# Altium footprint library SEMI.PcbLib: 31 footprints (part 2 of 2)
Each footprint in its own frame and in the unit in brackets; x right, y up, seen from the top. Pads: shape width x height; smd on the part's side, far side on the other; paste and mask are expansions set on the pad; w line width, h text height; cw(c..) or ccw(c..) is an arc to the next point about the centre after c.
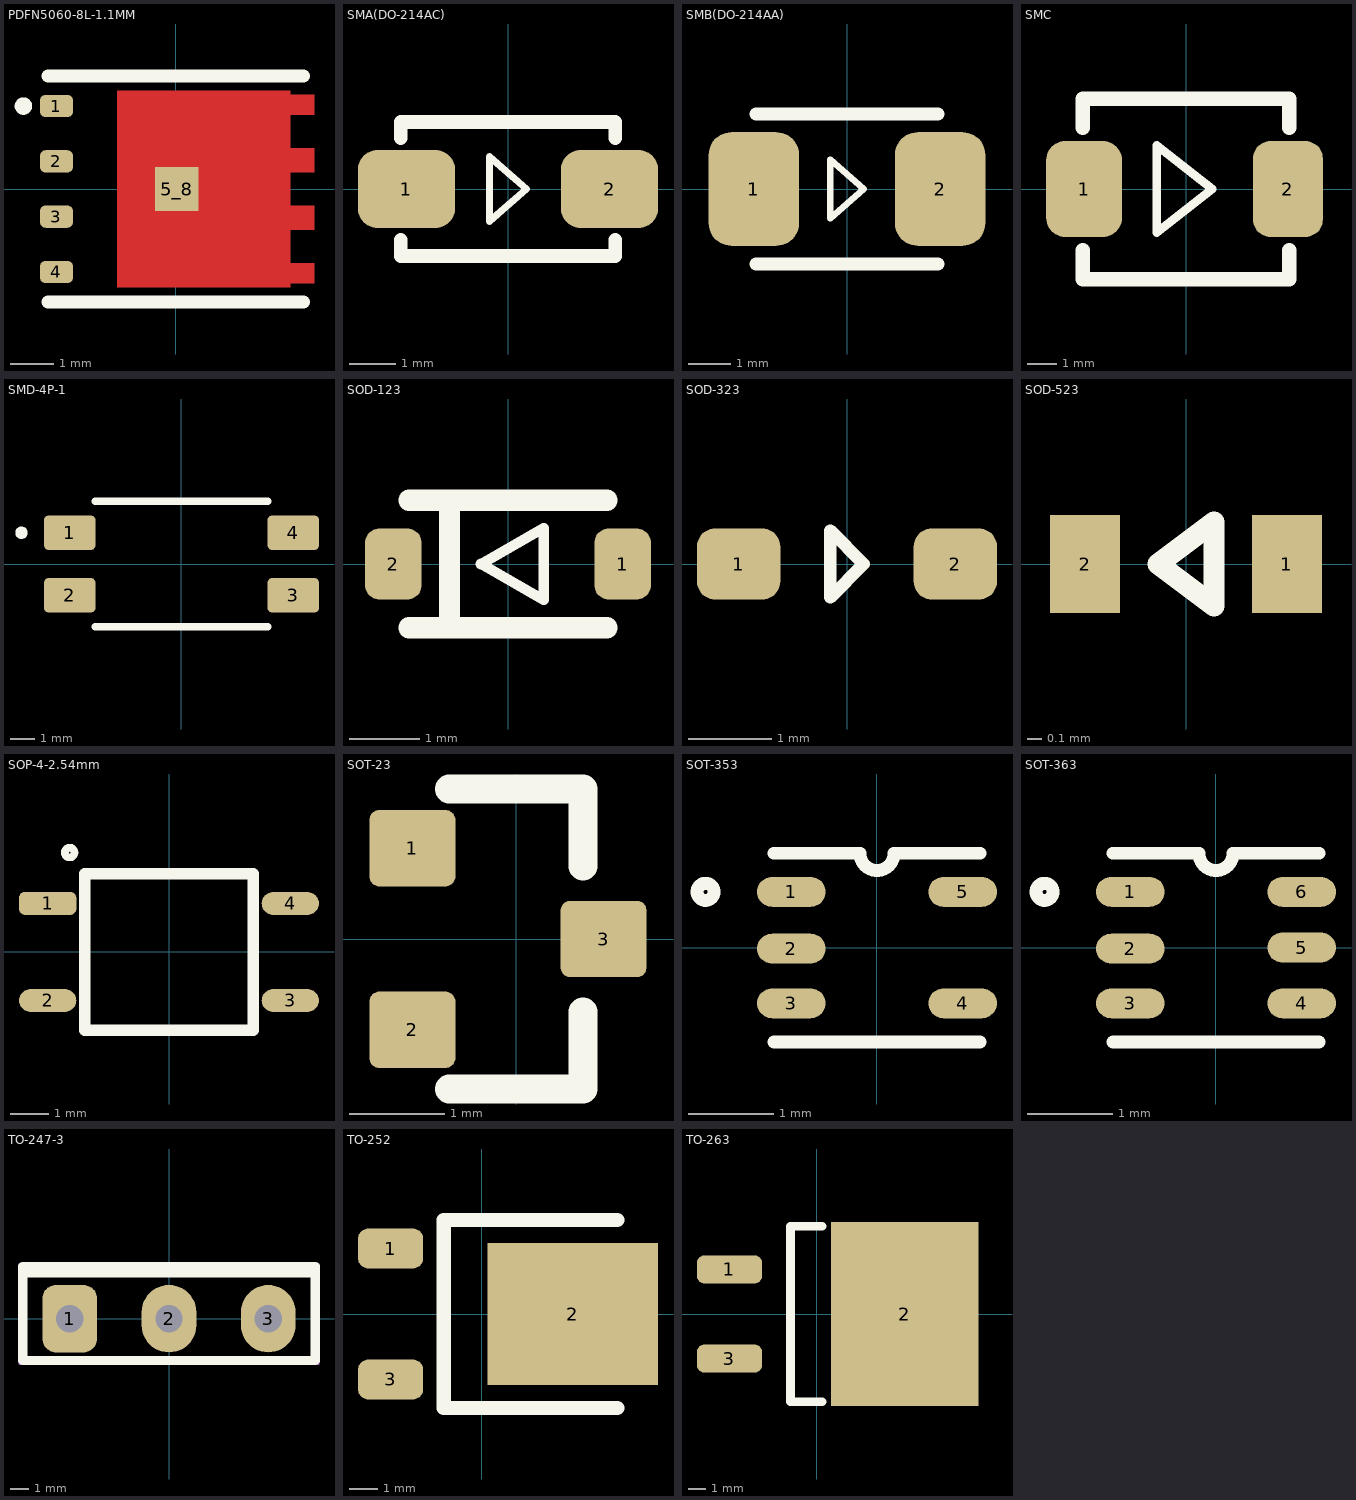
[diagram p1: the footprints below, top view; thin cyan lines are the x and y axes]

## PDFN5060-8L-1.1MM [mm]
height 1.1
pads (5):
  rrect50% 0.76x0.51 smd: 1(-2.74,1.905) 2(-2.74,0.635) 3(-2.74,-0.635) 4(-2.74,-1.905)
  rect 1x1 smd paste-1 mask+0: 5_8(0.025,0)
Top Layer:
  region: 3.18,1.7 2.63,1.7 2.63,0.94 3.18,0.94 3.18,0.38 2.63,0.38 2.63,-0.38 3.18,-0.38 3.18,-0.94 2.63,-0.94 2.63,-1.7 3.18,-1.7 3.18,-2.16 2.63,-2.16 2.63,-2.26 -1.34,-2.26 -1.34,2.26 2.63,2.26 2.63,2.16 3.18,2.16
Top Overlay:
  circle w0.2: c-3.5,1.905 r0.1
  lines w0.3: -2.93,-2.6 2.93,-2.6 ; -2.93,2.6 2.93,2.6
Top Paste:
  region: 0.35,0.225 -0.93,0.225 -0.93,1.295 0.35,1.295
  region: 2.08,0.225 0.8,0.225 0.8,1.295 2.08,1.295
  region: 2.08,-1.295 0.8,-1.295 0.8,-0.225 2.08,-0.225
  region: 0.35,-1.295 -0.93,-1.295 -0.93,-0.225 0.35,-0.225
  region: 3.18,0.38 2.38,0.38 2.38,0.94 3.18,0.94
  region: 3.18,-2.16 2.38,-2.16 2.38,-1.7 3.18,-1.7
  region: 3.18,-0.94 2.38,-0.94 2.38,-0.38 3.18,-0.38
  region: 3.18,1.7 2.38,1.7 2.38,2.16 3.18,2.16
Top Solder:
  region: 3.29,1.6 2.73,1.6 2.73,1.04 3.29,1.04 3.29,0.28 2.73,0.28 2.73,-0.28 3.29,-0.28 3.29,-1.04 2.73,-1.04 2.73,-1.6 3.29,-1.6 3.29,-2.36 -1.44,-2.36 -1.44,2.36 3.29,2.36
3D body "step_temp.STEP": height 1.1, standoff 0, extent -3.15,-2.525 3.2,2.525

## SMA(DO-214AC) [mm]
pads (2):
  rrect50% 2.1x1.7 smd: 1(-2.2,0) 2(2.2,0)
Top Overlay:
  lines w0.15: -0.4,-0.7 -0.4,0.7 0.4,0 -0.4,-0.7
  lines w0.3: -2.325,-1.104 -2.325,-1.45 2.325,-1.45 2.325,-1.104 ; -2.325,1.104 -2.325,1.45 2.325,1.45 2.325,1.104
3D body "SMA(DO-214AC).STEP": height 2.44, standoff 0.04, extent -2.6,-1.3 2.6,1.3

## SMB(DO-214AA) [mm]
pads (2):
  rrect50% 2.15x2.7 smd: 1(-2.21,0) 2(2.21,0)
Top Overlay:
  lines w0.15: -0.4,-0.7 0.4,0 -0.4,0.7 -0.4,-0.7
  lines w0.3: -2.16,-1.78 2.16,-1.78 ; -2.16,1.78 2.16,1.78
3D body "SMB.STEP": height 2.33, standoff 0.03, extent -2.7,-1.78 2.7,1.78

## SMC [mm]
pads (2):
  rrect50% 2.6x3.3 smd: 1(-3.5,0)
  rrect50% 2.4x3.3 smd: 2(3.5,0)
Top Overlay:
  lines w0.3: -1,-1.5 0.9,0 -1,1.5 -1,-1.5
  lines w0.5: -3.55,-2.1 -3.55,-3.1 3.55,-3.1 3.55,-2.1 ; -3.55,2.1 -3.55,3.1 3.55,3.1 3.55,2.1
3D body "SMC.step": height 2.27, standoff 0, extent -3.97,-2.953 3.97,2.953

## SMD-4P-1 [mm]
pads (4):
  rrect25% 2.09x1.39 smd: 1(-4.54,1.27) 2(-4.54,-1.27) 3(4.54,-1.27) 4(4.54,1.27)
Top Overlay:
  circle w0.3: c-6.5,1.27 r0.1
  lines w0.3: -3.5,-2.55 3.5,-2.55 ; -3.5,2.55 3.5,2.55
3D body "VOT8024AB-T2.STEP": height 3.78, standoff -0.08, extent -5.08,-2.3 5.08,2.3

## SOD-123 [mm]
pads (2):
  rrect50% 0.8x1 smd paste-0.05: 1(1.62,0) 2(-1.62,0)
Top Overlay:
  lines w0.15: -0.381,0 0.508,0.508 0.508,-0.508 -0.381,0
  lines w0.3: -1.4,-0.9 1.4,-0.9 ; -1.4,0.9 1.4,0.9 ; -0.827,-0.9 -0.827,0.9
3D body "User Library-SOD-123.STEP": height 1.25, standoff 0, extent -1.849,-0.8 1.849,0.8

## SOD-323 [mm]
pads (2):
  rrect50% 1x0.85 smd mask+0.1: 1(-1.3,0) 2(1.3,0)
Top Overlay:
  lines w0.15: -0.2,-0.4 0.2,0 -0.2,0.4 -0.2,-0.4
3D body "step_temp.STEP": height 1.17, standoff 0, extent -1.25,-0.64 1.25,0.64

## SOD-523 [mm]
pads (2):
  rect 0.5x0.7 smd mask+0.1: 1(0.72,0) 2(-0.72,0)
Top Overlay:
  lines w0.15: -0.2,0 0.2,0.3 0.2,-0.3 -0.2,0
3D body "1PS79SB17.STEP": height 0.65, standoff 0, extent -0.8,-0.4 0.8,0.4

## SOP-4-2.54mm [mm]
pads (4):
  rrect50% 1.5x0.6 smd: 1(-3.175,1.27)
  oval 1.5x0.6 smd: 2(-3.175,-1.27) 3(3.175,-1.27) 4(3.175,1.27)
Top Overlay:
  circle w0.2: c-2.6,2.6 r0.127
  lines w0.3: -2.2,-2.05 2.2,-2.05 2.2,2.05 -2.2,2.05 -2.2,-2.05
3D body "SOP-4-2.54mm.STEP": height 2.1, standoff 0, extent -3.4,-2.15 3.4,2.15

## SOT-23 [mm]
pads (3):
  rrect25% 0.9x0.8 smd: 1(-1.085,0.95) 2(-1.085,-0.95) 3(0.915,0)
Top Overlay:
  lines w0.3: -0.7,-1.57 0.7,-1.57 0.7,-0.762 ; -0.7,1.57 0.7,1.57 0.7,0.762
3D body "SOT-23.STEP": height 1.1, standoff 0, extent -1.25,-1.5 1.25,1.5

## SOT-353 [mm]
pads (5):
  oval 0.8x0.35 smd mask+0.1: 1(-1,0.65) 2(-1,-0.012) 3(-1,-0.65) 4(1,-0.65) 5(1,0.65)
Top Overlay:
  circle w0.15: c-2,0.65 r0.1
  lines w0.15: -1.2,-1.1 1.2,-1.1 ; -1.2,1.1 -0.2,1.1 ccw(c0,1.1) 0.2,1.1 1.2,1.1
3D body "SOT-353.STEP": height 0.92, standoff 0.02, extent -1.1,-0.983 1.1,0.983

## SOT-363 [mm]
pads (6):
  oval 0.8x0.35 smd mask+0.1: 1(-1,0.65) 2(-1,-0.012) 3(-1,-0.65) 4(1,-0.65) 5(1,0) 6(1,0.65)
Top Overlay:
  circle w0.15: c-2,0.65 r0.1
  lines w0.15: -1.2,-1.1 1.2,-1.1 ; -1.2,1.1 -0.2,1.1 ccw(c0,1.1) 0.2,1.1 1.2,1.1
3D body "SOT-363.stp": height 0.95, standoff 0, extent -1.05,-1.05 1.05,1.05

## TO-247-3 [mm]
height 25.66
pads (3):
  rrect50% 3x3.7 hole 1.5 mask+0.3: 1(-5.44,0)
  oval 3x3.7 hole 1.5 mask+0.3: 2(0,0) 3(5.44,0)
Top Overlay:
  lines w0.5: -8.015,2.5 8.015,2.5 ; -8.015,-2.29 -8.015,2.87 8.015,2.87 8.015,-2.29 -8.015,-2.29
Mechanical 15:
  lines w0.05: -8.22,-2.502 8.22,-2.502 8.22,3.017 -8.22,3.017 -8.22,-2.502
3D body "TO-247AC_Max_Size_rev1.1.STEP": height 26.4, standoff -2.6, extent -7.95,-2.26 7.95,2.86

## TO-252 [mm]
height 2.4
pads (3):
  rrect50% 2.29x1.4 smd: 1(-3.2,2.3) 3(-3.2,-2.3)
  rect 6x5 smd paste-4: 2(3.2,0)
Top Overlay:
  lines w0.5: 4.768,-3.3 -1.332,-3.3 -1.332,3.3 4.768,3.3
Top Paste:
  region: 6.2,-2.5 0.2,-2.5 0.2,2.5 6.2,2.5
3D body "step_temp.STEP": height 2.38, standoff 0, extent -4,-3.285 5.9,3.285

## TO-263 [mm]
pads (3):
  rrect50% 3.7x1.6 smd mask+0.3: 1(-4.98,2.54) 3(-4.98,-2.54)
  rect 8.4x10.5 smd paste-5 mask+0.3: 2(5,0)
Top Overlay:
  lines w0.5: 0.3,-5 -1.5,-5 -1.5,5 0.3,5
Top Paste:
  region: 5.81,0.385 4.15,0.385 4.15,1.785 5.81,1.785
  region: 5.81,-1.785 4.15,-1.785 4.15,-0.385 5.81,-0.385
  region: 5.81,-3.955 4.15,-3.955 4.15,-2.555 5.81,-2.555
  region: 5.81,2.555 4.15,2.555 4.15,3.955 5.81,3.955
  region: 3.13,0.385 1.47,0.385 1.47,1.785 3.13,1.785
  region: 3.13,-1.785 1.47,-1.785 1.47,-0.385 3.13,-0.385
  region: 3.13,-3.955 1.47,-3.955 1.47,-2.555 3.13,-2.555
  region: 3.13,2.555 1.47,2.555 1.47,3.955 3.13,3.955
  region: 8.49,0.385 6.83,0.385 6.83,1.785 8.49,1.785
  region: 8.49,-1.785 6.83,-1.785 6.83,-0.385 8.49,-0.385
  region: 8.49,-3.955 6.83,-3.955 6.83,-2.555 8.49,-2.555
  region: 8.49,2.555 6.83,2.555 6.83,3.955 8.49,3.955
3D body "step_temp.STEP": height 4.83, standoff 0, extent -6.15,-5.03 9.09,5.03